# EAGLE library part 74LS375 (library atari)
4-Bit D-Type Latch
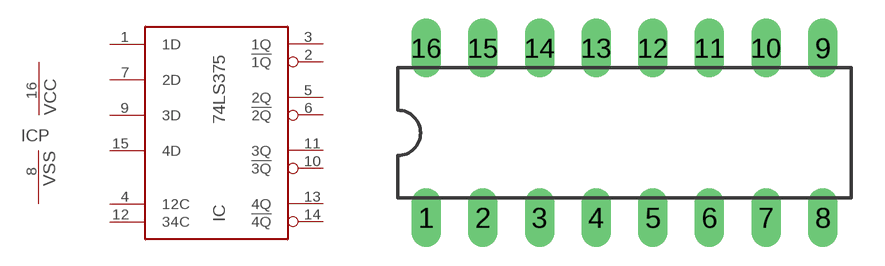
[diagram p3: symbol with the pads of DIL16; footprint DIL16]

Designator prefix IC; gates =74LS375 P=VCCVSS

## 74LS375  [DIL16]
1  :1D  in
2  :!1Q  out
3  :1Q  out
4  :12C  in
5  :2Q  out
6  :!2Q  out
7  :2D  in
8  P:VSS  pwr
9  :3D  in
10  :!3Q  out
11  :3Q  out
12  :34C  in
13  :4Q  out
14  :!4Q  out
15  :4D  in
16  P:VCC  pwr

## Footprint DIL16 (pad centres in mm)
drill 0.813 long: 1 -8.89,-3.81; 2 -6.35,-3.81; 3 -3.81,-3.81; 4 -1.27,-3.81; 5 1.27,-3.81; 6 3.81,-3.81; 7 6.35,-3.81; 8 8.89,-3.81; 9 8.89,3.81; 10 6.35,3.81; 11 3.81,3.81; 12 1.27,3.81; 13 -1.27,3.81; 14 -3.81,3.81; 15 -6.35,3.81; 16 -8.89,3.81